# EAGLE library part PCF8574T/3,512 (library ECE477_Resources)
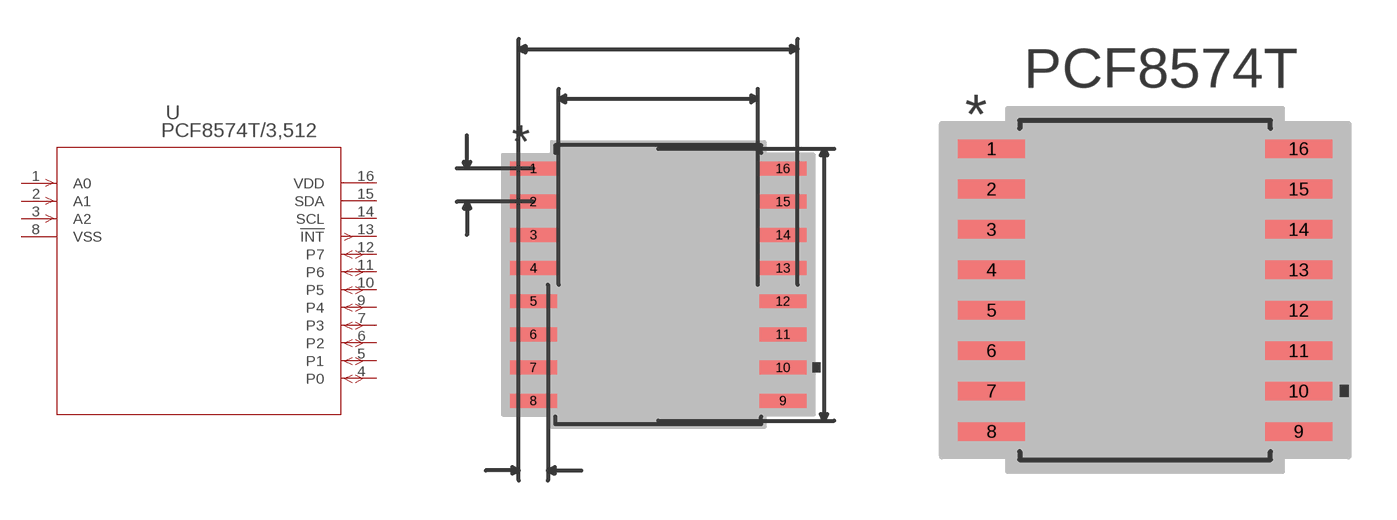
[diagram p1: symbol with the pads of SOT162-1; footprints SOT162-1, SOT162-1-M]

Designator prefix U

## PCF8574T/3,512 (MANUFACTURER_PART_NUMBER: PCF8574T3512; VENDOR: NXP)  [SOT162-1]
1  A0  in
2  A1  in
3  A2  in
4  P0
5  P1
6  P2
7  P3
8  VSS  pwr
9  P4
10  P5
11  P6
12  P7
13  !INT  out
14  SCL  pas
15  SDA  pas
16  VDD  pwr

## PCF8574T/3,512SOT162-1-M (MANUFACTURER_PART_NUMBER: PCF8574T3512; VENDOR: NXP)  [SOT162-1-M]
Pads as for SOT162-1

## PCF8574T/3,512SOT162-1-L (MANUFACTURER_PART_NUMBER: PCF8574T3512; VENDOR: NXP)  [SOT162-1-L]
Pads as for SOT162-1

## Footprint SOT162-1 (pad centres in mm)
smd 1.803 x 0.533: 1 -4.775,4.445; 2 -4.775,3.175; 3 -4.775,1.905; 4 -4.775,0.635; 5 -4.775,-0.635; 6 -4.775,-1.905; 7 -4.775,-3.175; 8 -4.775,-4.445; 9 4.775,-4.445; 10 4.775,-3.175; 11 4.775,-1.905; 12 4.775,-0.635; 13 4.775,0.635; 14 4.775,1.905; 15 4.775,3.175; 16 4.775,4.445

## Footprint SOT162-1-M (pad centres in mm)
smd 2.108 x 0.584: 1 -4.826,4.445; 2 -4.826,3.175; 3 -4.826,1.905; 4 -4.826,0.635; 5 -4.826,-0.635; 6 -4.826,-1.905; 7 -4.826,-3.175; 8 -4.826,-4.445; 9 4.826,-4.445; 10 4.826,-3.175; 11 4.826,-1.905; 12 4.826,-0.635; 13 4.826,0.635; 14 4.826,1.905; 15 4.826,3.175; 16 4.826,4.445

## Footprint SOT162-1-L (pad centres in mm)
smd 1.499 x 0.483: 1 -4.724,4.445; 2 -4.724,3.175; 3 -4.724,1.905; 4 -4.724,0.635; 5 -4.724,-0.635; 6 -4.724,-1.905; 7 -4.724,-3.175; 8 -4.724,-4.445; 9 4.724,-4.445; 10 4.724,-3.175; 11 4.724,-1.905; 12 4.724,-0.635; 13 4.724,0.635; 14 4.724,1.905; 15 4.724,3.175; 16 4.724,4.445